# Altium schematic symbol library CON7.Schlib: 1 symbol
Pins are listed as number, name and electrical type; pins without a type are passive.

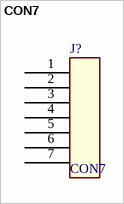
[diagram p0: symbol CON7]

## CON7
designator J?
pins: 1, 2, 3, 4, 5, 6, 7